# EAGLE library part HX42003-6 (library Generic Connector)
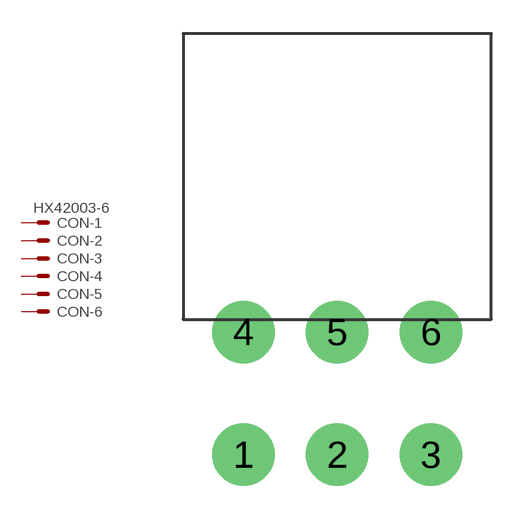
[diagram p8: symbol with the pads of HX42003-6WAF; footprint HX42003-6WAF]

Designator prefix CON; gates -1=KV -2=K -3=K -4=K -5=K -6=K

## HX42003-6WAF  [HX42003-6WAF]
1  -1:S  pas
2  -2:S  pas
3  -3:S  pas
4  -4:S  pas
5  -5:S  pas
6  -6:S  pas

## Footprint HX42003-6WAF (pad centres in mm)
drill 1.8 pad 2.8: 1 -4.2,-2.75; 2 0,-2.75; 3 4.2,-2.75; 4 -4.2,2.75; 5 0,2.75; 6 4.2,2.75